# EAGLE library part MK20DX128VLH5 (library TeensyCustom)
Teensy 3.0 Processing Unit - MK20DX128VLH5 ARM Cortex M0 Datasheet: http://cache.freescale.com/files/32bit/doc/data_sheet/K20P64M50SF0.pdf
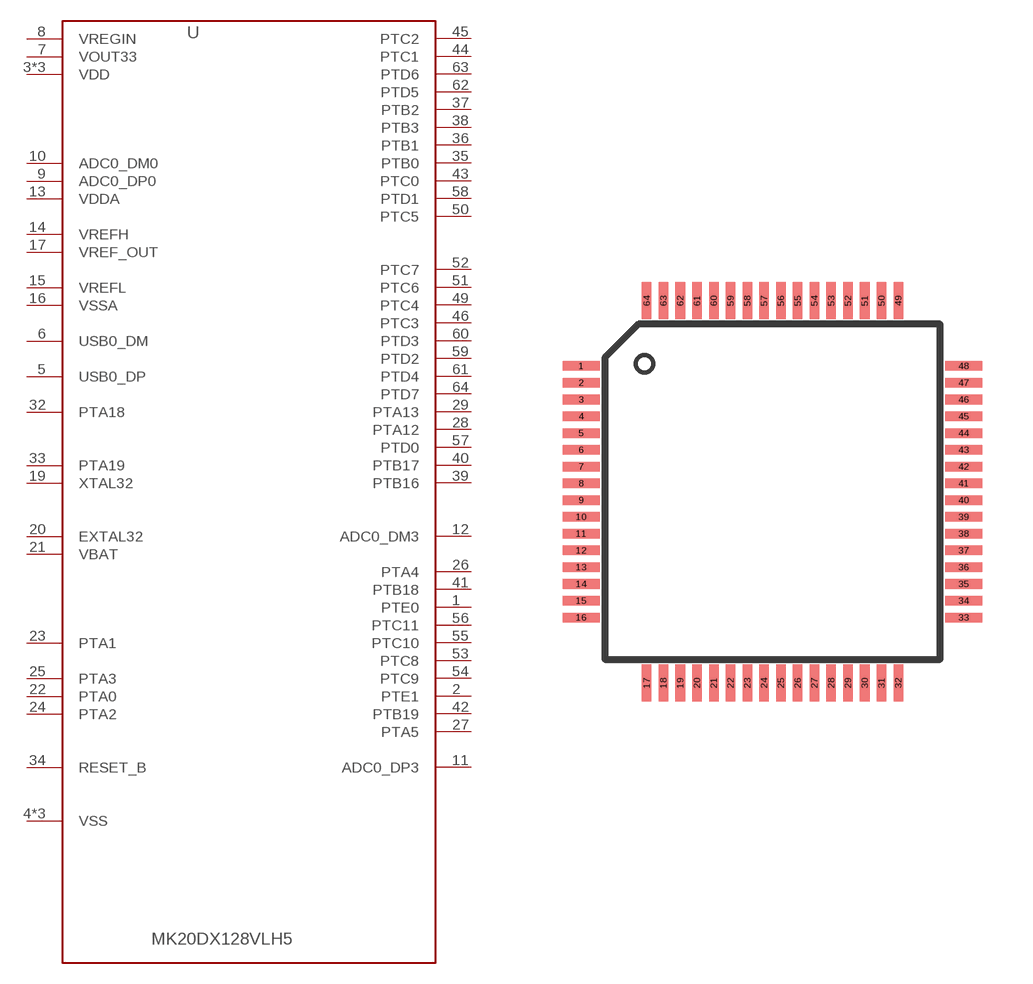
[diagram p0: symbol with the pads of MK20DX128VLH5; footprint MK20DX128VLH5]

Designator prefix U

## MK20DX128VLH5  [MK20DX128VLH5]
1  PTE0
2  PTE1
3  VDD
4  VSS
5  USB0_DP
6  USB0_DM
7  VOUT33
8  VREGIN
9  ADC0_DP0
10  ADC0_DM0
11  ADC0_DP3
12  ADC0_DM3
13  VDDA
14  VREFH
15  VREFL
16  VSSA
17  VREF_OUT
19  XTAL32
20  EXTAL32
21  VBAT
22  PTA0
23  PTA1
24  PTA2
25  PTA3
26  PTA4
27  PTA5
28  PTA12
29  PTA13
30  VDD
31  VSS
32  PTA18
33  PTA19
34  RESET_B
35  PTB0
36  PTB1
37  PTB2
38  PTB3
39  PTB16
40  PTB17
41  PTB18
42  PTB19
43  PTC0
44  PTC1
45  PTC2
46  PTC3
47  VSS
48  VDD
49  PTC4
50  PTC5
51  PTC6
52  PTC7
53  PTC8
54  PTC9
55  PTC10
56  PTC11
57  PTD0
58  PTD1
59  PTD2
60  PTD3
61  PTD4
62  PTD5
63  PTD6
64  PTD7

## Footprint MK20DX128VLH5 (pad centres in mm)
smd 1.1 x 0.285: 1 -5.605,3.385; 2 -5.605,2.885; 3 -5.605,2.385; 4 -5.605,1.885; 5 -5.605,1.385; 6 -5.605,0.885; 7 -5.605,0.385; 8 -5.605,-0.115; 9 -5.605,-0.615; 10 -5.605,-1.115; 11 -5.605,-1.615; 12 -5.605,-2.115; 13 -5.605,-2.615; 14 -5.605,-3.115; 15 -5.605,-3.615; 16 -5.605,-4.115; 33 5.795,-4.115; 34 5.795,-3.615; 35 5.795,-3.115; 36 5.795,-2.615; 37 5.795,-2.115; 38 5.795,-1.615; 39 5.795,-1.115; 40 5.795,-0.615; 41 5.795,-0.115; 42 5.795,0.385; 43 5.795,0.885; 44 5.795,1.385; 45 5.795,1.885; 46 5.795,2.385; 47 5.795,2.885; 48 5.795,3.385
smd 0.285 x 1.1: 17 -3.655,-6.065; 18 -3.155,-6.065; 19 -2.655,-6.065; 20 -2.155,-6.065; 21 -1.655,-6.065; 22 -1.155,-6.065; 23 -0.655,-6.065; 24 -0.155,-6.065; 25 0.345,-6.065; 26 0.845,-6.065; 27 1.345,-6.065; 28 1.845,-6.065; 29 2.345,-6.065; 30 2.845,-6.065; 31 3.345,-6.065; 32 3.845,-6.065; 49 3.845,5.335; 50 3.345,5.335; 51 2.845,5.335; 52 2.345,5.335; 53 1.845,5.335; 54 1.345,5.335; 55 0.845,5.335; 56 0.345,5.335; 57 -0.155,5.335; 58 -0.655,5.335; 59 -1.155,5.335; 60 -1.655,5.335; 61 -2.155,5.335; 62 -2.655,5.335; 63 -3.155,5.335; 64 -3.655,5.335